# Altium schematic symbol library DHT22.SchLib: 1 symbol
Pins are listed as number, name and electrical type; pins without a type are passive.

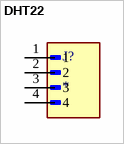
[diagram p0: symbol DHT22]

## DHT22
designator J?
Digital Temperature & Humidity Sensor, ±0.5°C / 2-5% RH, Single-Wire Digital Output, 3.3-5.5V, TO-220-4; MF: Amphenol ICC (FCI); MP: 10129378-904002BLF; SnapEDA_Link: https://www.snapeda.com/parts/10129378-904002BLF/Amphenol+FCI/view-part/?ref=snap; Package: None; Value: *; Check_prices: https://www.snapeda.com/parts/10129378-904002BLF/Amphenol+FCI/view-part/?ref=eda
footprint DHT22 (Footprint not found)
pins: 1, 2, 3, 4